# EAGLE library part M34553(48PIN) (library renesas_mcu)
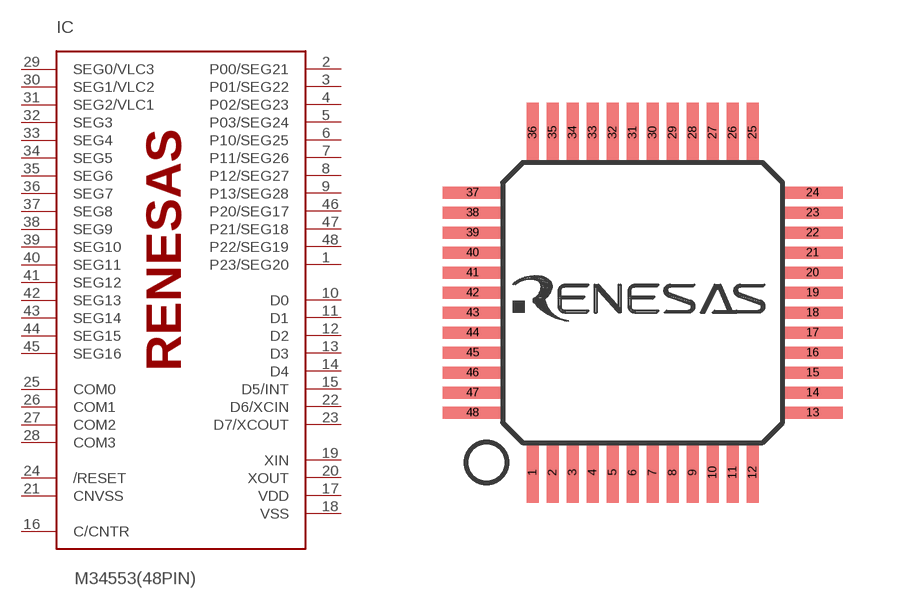
[diagram p55: symbol with the pads of 48P6Q-A; footprint 48P6Q-A]

Designator prefix IC

## M34553(48PIN)  [48P6Q-A]
1  P23/SEG20  out
2  P00/SEG21
3  P01/SEG22
4  P02/SEG23
5  P03/SEG24
6  P10/SEG25
7  P11/SEG26
8  P12/SEG27
9  P13/SEG28
10  D0  out
11  D1  out
12  D2  out
13  D3  out
14  D4  out
15  D5/INT
16  C/CNTR
17  VDD  pwr
18  VSS  pwr
19  XIN  in
20  XOUT  out
21  CNVSS
22  D6/XCIN
23  D7/XCOUT  out
24  /RESET
25  COM0  out
26  COM1  out
27  COM2  out
28  COM3  out
29  SEG0/VLC3  out
30  SEG1/VLC2  out
31  SEG2/VLC1  out
32  SEG3  out
33  SEG4  out
34  SEG5  out
35  SEG6  out
36  SEG7  out
37  SEG8  out
38  SEG9  out
39  SEG10  out
40  SEG11  out
41  SEG12  out
42  SEG13  out
43  SEG14  out
44  SEG15  out
45  SEG16  out
46  P20/SEG17  out
47  P21/SEG18  out
48  P22/SEG19  out

## Footprint 48P6Q-A (pad centres in mm)
smd 0.3 x 1.5: 1 -2.95,-4.35; 2 -2.45,-4.35; 3 -1.95,-4.35; 4 -1.45,-4.35; 5 -0.95,-4.35; 6 -0.45,-4.35; 7 0.05,-4.35; 8 0.55,-4.35; 9 1.05,-4.35; 10 1.55,-4.35; 11 2.05,-4.35; 12 2.55,-4.35; 25 2.55,4.15; 26 2.05,4.15; 27 1.55,4.15; 28 1.05,4.15; 29 0.55,4.15; 30 0.05,4.15; 31 -0.45,4.15; 32 -0.95,4.15; 33 -1.45,4.15; 34 -1.95,4.15; 35 -2.45,4.15; 36 -2.95,4.15
smd 1.5 x 0.3: 13 4.05,-2.85; 14 4.05,-2.35; 15 4.05,-1.85; 16 4.05,-1.35; 17 4.05,-0.85; 18 4.05,-0.35; 19 4.05,0.15; 20 4.05,0.65; 21 4.05,1.15; 22 4.05,1.65; 23 4.05,2.15; 24 4.05,2.65; 37 -4.45,2.65; 38 -4.45,2.15; 39 -4.45,1.65; 40 -4.45,1.15; 41 -4.45,0.65; 42 -4.45,0.15; 43 -4.45,-0.35; 44 -4.45,-0.85; 45 -4.45,-1.35; 46 -4.45,-1.85; 47 -4.45,-2.35; 48 -4.45,-2.85